# Altium footprint library EEE-1CA471UP.PcbLib: 1 footprints
Each footprint in its own frame and in the unit in brackets; x right, y up, seen from the top. Pads: shape width x height; smd on the part's side, far side on the other; paste and mask are expansions set on the pad; w line width, h text height; cw(c..) or ccw(c..) is an arc to the next point about the centre after c.
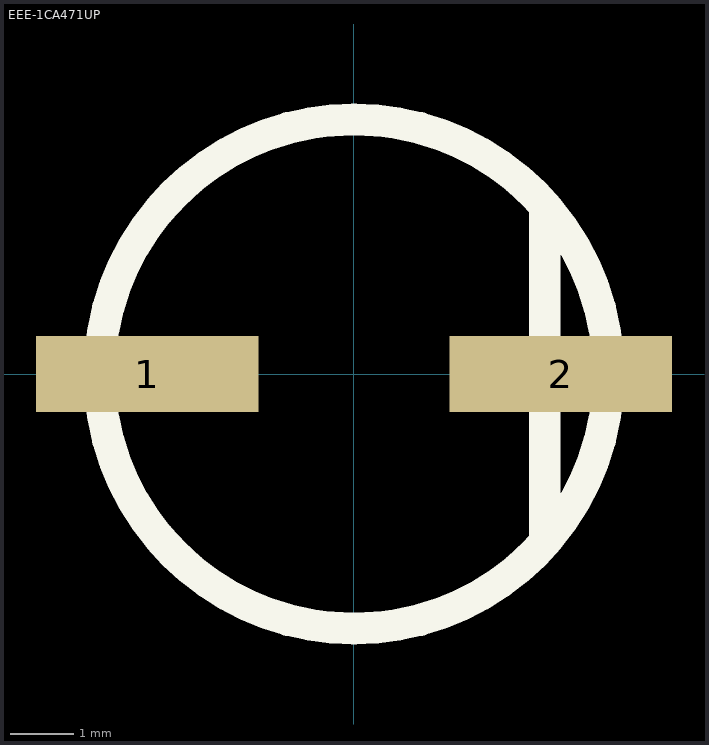
[diagram p0: the footprint, top view; thin cyan lines are the x and y axes]

## EEE-1CA471UP [mm]
pads (2):
  rect 3.5x1.2 smd: 1(-3.25,0) 2(3.25,0)
Top Overlay:
  circle w0.5: c0,0 r4
  lines w0.5: 2.997,-2.54 2.997,2.515
3D body "CAP_EEE_F_PAN.step": height 10.54, standoff 0, extent -4.928,-4.242 5.08,4.266